# Altium schematic symbol library Brainy Modul.SCHLIB: 21 symbols
Pins are listed as number, name and electrical type; pins without a type are passive.

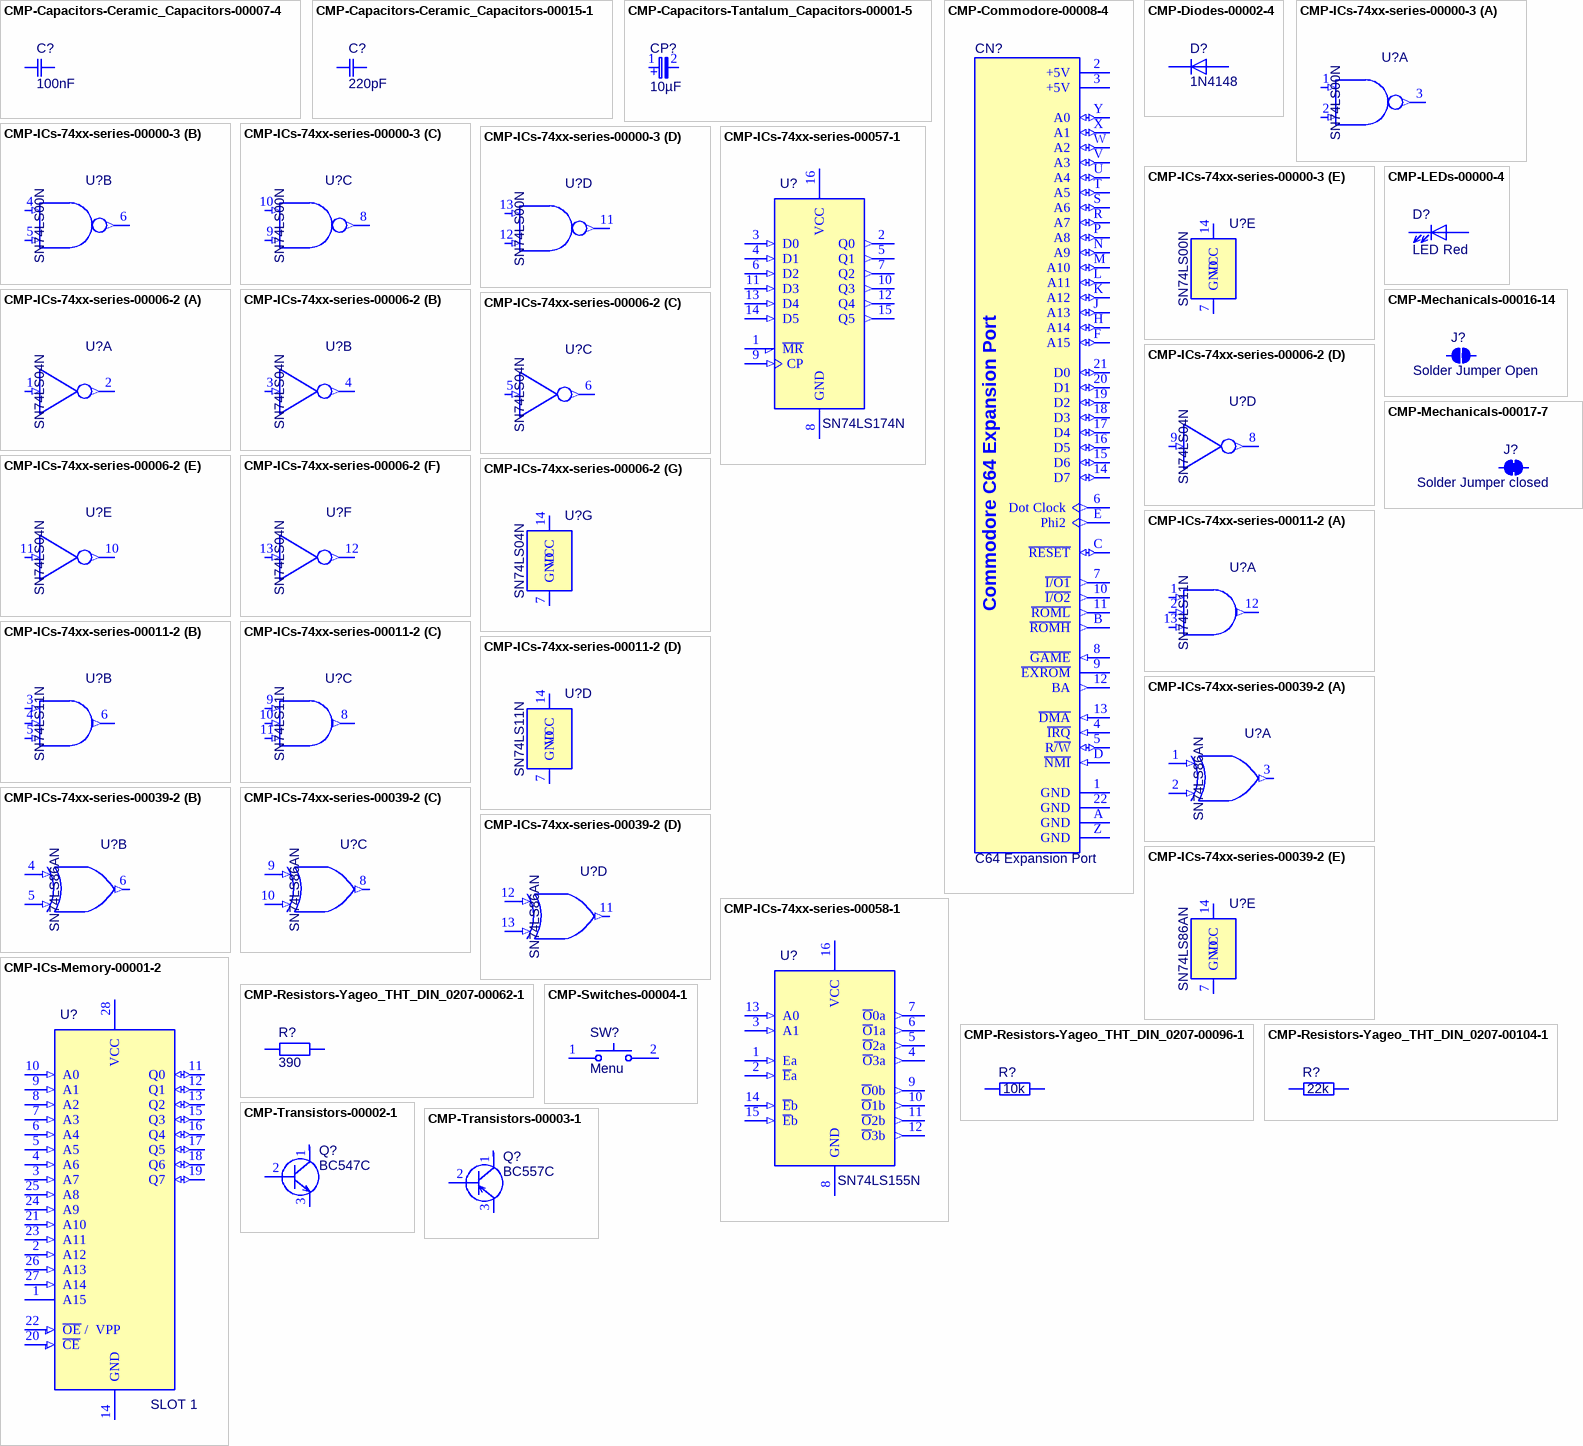
[diagram p0: symbols CMP-Capacitors-Ceramic_Capacitors-00007-4 to CMP-Transistors-00003-1]

## CMP-Capacitors-Ceramic_Capacitors-00007-4
designator C?, comment 100nF
Ceramic Disc Capacitors 100nF -20%~+80% 50V Through Hole,P=2.54mm RoHS; ComponentLink1URL: https://lcsc.com/product-detail/Others_Dersonic-CC1H104ZA1PD3F5O3000_C353909.html; Component Type: Ceramic Capacitors
footprint CAP Disc 100nF P2.54mm D5.5mm T3mm
pins: 1, 2

## CMP-Capacitors-Ceramic_Capacitors-00015-1
designator C?, comment 220pF
Keramischer Scheibenkondensator, bedrahtet. Für Printmontage, Rastermaß 2,5 mm.; Tolerance: 10%; Voltage Rating (DC): 63V; Lead/Base Style: Straight; Dielectric: C0G; Lead Diameter: 4mm; Mount: Through Hole; Height - Seated (Max): 5mm; Packaging: Tape and Reel; Width: 4mm; Number of Pins: 2; Lead Pitch: 2.5mm; Height: 5; Voltage Rating: 63V; REACH SVHC: No SVHC; Package Quantity: 3500; Capacitance: 220pF; Termination: Radial; Case/Package: Radial; Length: 0.15inch; Thickness: 2.2mm; Min Operating Temperature: -55°C; Max Operating Temperature: 125°C; Component Type: Ceramic Capacitors
footprint KERKO 220P 63V RM2.5mm
pins: 1, 2

## CMP-Capacitors-Tantalum_Capacitors-00001-5
designator CP?, comment 10µF
Tantalum Capacitors - Solid Leaded 25volts 10uF 10%; Manufacturer: KEMET; Manufacturer Part Number: T378E106K025AS; Dissipation Factor: 6%; Voltage Rating: 25V; Polarity: Polar; ESR (Equivalent Series Resistance): 2.5R; Leakage Current: 3uA; Capacitance: 10uF; Tolerance: 10%; Width: 5.84mm; Termination: Radial; Case/Package: Molded; Voltage Rating (DC): 25V; Length: 7.87mm; Max Operating Temperature: 125°C; Packaging: Bulk; Height: 3.3mm; Lead Pitch: 5.08mm; Depth: 3.3mm; Min Operating Temperature: -55°C; Component Type: Tantalum Capacitors
footprint CAP TAN 10µF T378E106K025AS P5.08mm
pins: 1, 2
text: +

## CMP-Commodore-00008-4
designator CN?, comment C64 Expansion Port  (no BOM)
Expansion Port EDGE Connector for Interface Cards; Component Type: Commodore
footprint C64 Expansion Port EDGE Connector
pins: 1 GND (power), 2 +5V (power), 3 +5V (power), 4 ~{IRQ} (in), 5 R~{/W} (io), 6 Dot Clock (out), 7 ~{I/O1} (out), 8 ~{GAME} (in), 9 ~{EXROM}, 10 ~{I/O2} (out), 11 ~{ROML} (out), 12 BA (out), 13 ~{DMA} (in), 14 D7 (io), 15 D6 (io), 16 D5 (io), 17 D4 (io), 18 D3 (io), 19 D2 (io), 20 D1 (io), 21 D0 (io), 22 GND (power), A GND (power), B ~{ROMH} (out), C ~{RESET} (io), D ~{NMI} (in), E Phi2 (out), F A15 (io), H A14 (io), J A13 (io), K A12 (io), L A11 (io), M A10 (io), N A9 (io), P A8 (io), R A7 (io), S A6 (io), T A5 (io), U A4 (io), V A3 (io), W A2 (io), X A1 (io), Y A0 (io), Z GND (power)
text: Commodore C64 Expansion Port

## CMP-Diodes-00002-4
designator D?, comment 1N4148
NEXPERIA - 1N4148 - DIODE, 1N4148 AMMO-BOX 10K; Manufacturer: NXP Semiconductors; Max Forward Surge Current (Ifsm): 4A; Capacitance: 4pF; Voltage: 100V; Forward Current: 200mA; Polarity: Standard; Forward Voltage: 1V; Element Configuration: Single; Max Power Dissipation: 500mW; Reverse Recovery Time: 4ns; Case/Package: SOD; Lead Free: Lead Free; Packaging: Ammo Pack; Termination: Axial; Max Operating Temperature: 200°C; Height: 0.25inch; Min Operating Temperature: -65°C; Weight: 0.01lb; Width: 0.25inch; Current Rating: 200mA; Radiation Hardening: No; Voltage Rating (DC): 100V; Length: 2.5inch; REACH SVHC: No SVHC; Number of Pins: 2; Output Current: 200mA; Max Repetitive Reverse Voltage (Vrrm): 100V; Current: 4A; Peak Non-Repetitive Surge Current: 4A; Manufacturer Part Number: 1N4148; Component Type: Diodes
footprint 1N4148 P=5.08mm
pins: 1, 2

## CMP-ICs-74xx-series-00000-3
designator U?, comment SN74LS00N
IC, 74LS, 74LS00, DIP14, 5.25V; Manufacturer: Texas Instruments; Number of Gates: 4; High Level Output Current: -400uA; Number of Input Lines: 2; Number of Output Lines: 1; Low Level Output Current: 8mA; Schmitt Trigger Input: No; Min Supply Voltage: 4.75V; Turn-On Delay Time: 15ns; Output Current: 16mA; Logic Function: NAND; Operating Supply Voltage: 5V; Quiescent Current: 2.4mA; Max Operating Temperature: 70°C; Number of Bits: 4; Packaging: Rail/Tube; Case/Package: PDIP; Lead Free: Lead Free; Length: 19.3mm; Radiation Hardening: No; Package Quantity: 25; Width: 6.35mm; Number of Elements: 4; Mount: Through Hole; Number of Circuits: 4; Min Operating Temperature: 0°C; Contact Plating: Gold; Number of Outputs: 1; Height: 4.57mm; Number of Inputs: 2; Number of Pins: 14; Propagation Delay: 15ns; REACH SVHC: No SVHC; Max Supply Voltage: 5.25V; Weight: 0.032734oz; Manufacturer Part Number: SN74LS00N; Component Type: 74xx-series
footprint SN74LS00N with Socket
footprint SN74LS00N
part A pins: 1 1A (in), 2 1B (in), 3 1Y (out)
part B pins: 4 2A (in), 5 2B (in), 6 2Y (out)
part C pins: 8 3Y (out), 9 3B (in), 10 3A (in)
part D pins: 11 4Y (out), 12 4B (in), 13 4A (in)
part E pins: 7 GND, 14 VCC (power)

## CMP-ICs-74xx-series-00006-2
designator U?, comment SN74LS04N
IC HEX INVERTER 14-DIP; Manufacturer: Texas Instruments; Low Level Output Current: 8mA; Number of Output Lines: 6; Propagation Delay: 15ns; High Level Output Current: -400uA; Operating Supply Voltage: 5V; Min Supply Voltage: 4.75V; Logic Function: Buffer,Inverter; Turn-On Delay Time: 22ns; Nominal Supply Current: 100uA; Number of Inputs: 1; Max Supply Voltage: 5.25V; Schmitt Trigger Input: No; Contact Plating: Gold; Packaging: Rail/Tube; Case/Package: PDIP; Lead Free: Lead Free; Weight: 0.032734oz; Width: 6.35mm; Number of Pins: 14; Output Current: 8mA; Number of Gates: 6; Length: 19.3mm; REACH SVHC: No SVHC; Max Output Current: 8mA; Number of Circuits: 6; Min Operating Temperature: 0°C; Number of Bits: 6; Mount: Through Hole; Height: 4.57mm; Package Quantity: 25; Number of Elements: 6; Max Operating Temperature: 70°C; Radiation Hardening: No; Termination: Through Hole; Manufacturer Part Number: SN74LS04N; Component Type: 74xx-series
footprint SN74LS04N with Socket
footprint SN74LS04N
part A pins: 1 1A (in), 2 1Y (out)
part B pins: 3 2A (in), 4 2Y (out)
part C pins: 5 3A (in), 6 3Y (out)
part D pins: 8 4Y (out), 9 4A (in)
part E pins: 10 5Y (out), 11 5A (in)
part F pins: 12 6Y (out), 13 6A (in)
part G pins: 7 GND, 14 VCC (power)

## CMP-ICs-74xx-series-00011-2
designator U?, comment SN74LS11N
IC GATE AND 3CH 3-INP 14DIP; Manufacturer: Texas Instruments; Quiescent Current: 3.3mA; Number of Circuits: 3; Output Current: 8mA; Schmitt Trigger Input: No; Min Supply Voltage: 4.75V; Number of Output Lines: 1; Operating Supply Voltage: 5V; High Level Output Current: -400uA; Propagation Delay: 20ns; Max Supply Voltage: 5.25V; Lead Free: Lead Free; Termination: Through Hole; Max Operating Temperature: 70°C; Number of Pins: 14; Case/Package: PDIP; Logic Function: AND; Number of Elements: 3; Low Level Output Current: 8mA; Number of Inputs: 3; Package Quantity: 25; Length: 19.3mm; Min Operating Temperature: 0°C; Width: 6.35mm; Weight: 0.032734oz; Number of Outputs: 1; Number of Gates: 3; Height: 4.57mm; Number of Bits: 3; Number of Input Lines: 3; Mount: Through Hole; Packaging: Rail/Tube; REACH SVHC: No SVHC; Max Output Current: 8mA; Turn-On Delay Time: 20ns; Radiation Hardening: No; Manufacturer Part Number: SN74LS11N; Component Type: 74xx-series
footprint SN74LS11N with Socket
footprint SN74LS11N
part A pins: 1 1A (in), 2 1B (in), 12 1Y (out), 13 1C (in)
part B pins: 3 2A (in), 4 2B (in), 5 2C (in), 6 2Y (out)
part C pins: 8 3Y (out), 9 3A (in), 10 3C (in), 11 3B (in)
part D pins: 7 GND, 14 VCC (power)

## CMP-ICs-74xx-series-00039-2
designator U?, comment SN74LS86AN
IC GATE XOR 4CH 2-INP 14-DIP; Manufacturer: Texas Instruments; Turn-On Delay Time: 30ns; Number of Input Lines: 2; Number of Elements: 4; Quiescent Current: 6.1mA; Min Supply Voltage: 4.75V; Schmitt Trigger Input: No; Logic Function: XOR,OR; Low Level Output Current: 8mA; High Level Output Current: -400uA; Operating Supply Voltage: 5V; Number of Output Lines: 1; Max Supply Voltage: 5.25V; Length: 19.3mm; REACH SVHC: No SVHC; Package Quantity: 25; Number of Gates: 4; Case/Package: PDIP; Mount: Through Hole; Height: 4.57mm; Lead Free: Lead Free; Max Operating Temperature: 70°C; Contact Plating: Gold; Radiation Hardening: No; Width: 6.35mm; Propagation Delay: 30ns; Number of Pins: 14; Number of Bits: 4; Number of Circuits: 4; Number of Inputs: 2; Output Current: 8mA; Packaging: Rail/Tube; Weight: 0.032734oz; Min Operating Temperature: 0°C; Number of Outputs: 1; Manufacturer Part Number: SN74LS86AN; Component Type: 74xx-series
footprint SN74LS86N with Socket
footprint SN74LS86N
part A pins: 1 1A (in), 2 2B (in), 3 1Y (out)
part B pins: 4 2A (in), 5 2B (in), 6 2Y (out)
part C pins: 8 3Y (out), 9 3A (in), 10 3B (in)
part D pins: 11 4Y (out), 12 4A (in), 13 4B (in)
part E pins: 7 GND, 14 VCC (power)

## CMP-ICs-74xx-series-00057-1
designator U?, comment SN74LS174N
Flip Flop D-Type Bus Interface Pos-Edge 1-Element 16-Pin PDIP Tube; Manufacturer: Texas Instruments; Number of Elements: 1; Number of Circuits: 7; Number of Output Lines: 2; Polarity: Non-Inverting; Output Current: 8mA; Operating Supply Voltage: 5V; Number of Bits per Element: 6; Output Type: TTL; Frequency: 40MHz; Turn-On Delay Time: 20ns; Clock Edge Trigger Type: Positive Edge; Logic Function: D-Type,Flip-Flop; Min Supply Voltage: 4.75V; Propagation Delay: 30ns; Max Supply Voltage: 5.25V; High Level Output Current: -400uA; Package Quantity: 25; Packaging: Rail/Tube; Length: 19.3mm; Number of Input Lines: 2; Radiation Hardening: No; Case/Package: PDIP; Mount: Through Hole; Max Operating Temperature: 70°C; Number of Bits: 6; Lead Free: Lead Free; Height: 4.57mm; Low Level Output Current: 8mA; Max Frequency: 40MHz; REACH SVHC: No SVHC; Weight: 0.03357oz; Width: 6.35mm; Number of Pins: 16; Min Operating Temperature: 0°C; Manufacturer Part Number: SN74LS174N; Component Type: 74xx-series
footprint SN74LS174N with Socket
footprint SN74LS174N
pins: 1 ~{MR}, 2 Q0 (out), 3 D0 (in), 4 D1 (in), 5 Q1 (out), 6 D2 (in), 7 Q2 (out), 8 GND (power), 9 CP (in), 10 Q3 (out), 11 D3 (in), 12 Q4 (out), 13 D4 (in), 14 D5 (in), 15 Q5 (out), 16 VCC (power)

## CMP-ICs-74xx-series-00058-1
designator U?, comment SN74LS155N
Decoder/Demultiplexer Single/Dual 3/2-to-8/4 16-Pin PDIP; Manufacturer: ON Semiconductor; Polarity: Inverting; Max Supply Voltage: 5.25V; Min Supply Voltage: 4.75V; Operating Supply Voltage: 5V; Propagation Delay: 51ns; Low Level Output Current: 8mA; High Level Output Current: -100uA; Number of Pins: 16; Case/Package: PDIP; Max Operating Temperature: 70°C; Min Operating Temperature: 0°C; Mount: Through Hole; Manufacturer Part Number: SN74LS155N; Component Type: 74xx-series
footprint SN74LS155N with Socket
footprint SN74LS155N
pins: 1 Ea (in), 2 ~{E}a (in), 3 A1 (in), 4 ~{O}3a (out), 5 ~{O}2a (out), 6 ~{O}1a (out), 7 ~{O}0a (out), 8 GND (power), 9 ~{O}0b (out), 10 ~{O}1b (out), 11 ~{O}2b (out), 12 ~{O}3b (out), 13 A0 (in), 14 ~{E}b (in), 15 ~{E}b (in), 16 VCC (power)

## CMP-ICs-Memory-00001-2
designator U?, comment SLOT 1
IC EEPROM 512KBIT 45NS 28DIP; Manufacturer: Winbond; Manufacturer Part Number: W27C512-45Z; Interface: Parallel; Density: 512Kb; Frequency: 45GHz; Operating Supply Voltage: 5V; Memory Size: 512000B; Case/Package: DIP; Memory Type: EEPROM; Number of Pins: 28; Lead Free: Lead Free; Package Quantity: 15; Packaging: Rail/Tube; Radiation Hardening: No; Access Time: 45ns; Min Operating Temperature: 0°C; Max Operating Temperature: 70°C; Component Type: Memorys
footprint Winbond W27C512-45Z DIP-28 with Socket
footprint Winbond W27C512-45Z DIP-28
pins: 1 A15, 2 A12 (in), 3 A7 (in), 4 A6 (in), 5 A5 (in), 6 A4 (in), 7 A3 (in), 8 A2 (in), 9 A1 (in), 10 A0 (in), 11 Q0 (io), 12 Q1 (io), 13 Q2 (io), 14 GND, 15 Q3 (io), 16 Q4 (io), 17 Q5 (io), 18 Q6 (io), 19 Q7 (io), 20 ~{CE} (in), 21 A10 (in), 22 ~{OE} /  VPP (in), 23 A11 (in), 24 A9 (in), 25 A8 (in), 26 A13 (in), 27 A14 (in), 28 VCC (power)

## CMP-LEDs-00000-4
designator D?, comment LED Red
WURTH ELEKTRONIK   151033RS03000   LED, 3MM,  RED, 2600MCD, 621NM; Manufacturer: Wurth Electronics; Viewing Angle: 30°; Test Current: 20mA; Forward Current: 30mA; Lens Style: Clear,Circular,Round; Forward Voltage: 2V; Packaging: Bulk; Height: 5.55mm; Color: Red; Wavelength: 621nm; Max Operating Temperature: 85°C; Luminous Intensity: 2600mcd; Dominant Wavelength: 621nm; REACH SVHC: Unknown; Mount: Through Hole; Lens Size: 3mm; Package Quantity: 1; Case/Package: Radial; Min Operating Temperature: -40°C; Manufacturer Part Number: 151033RS03000; Component Type: LEDs
footprint LED 3mm Red Straight
footprint LED 3mm Red Right Angle 2mm
footprint LED 3mm Red Right Angle 4mm
footprint LED 3mm Red Right Angle 6mm
pins: 1, 2

## CMP-Mechanicals-00016-14
designator J?, comment Solder Jumper Open  (no BOM)
Component Type: Mechanicals
footprint Solder Jumper Open Variant 2
pins: 1, 2

## CMP-Mechanicals-00017-7
designator J?, comment Solder Jumper closed  (net tie, no BOM)
Component Type: Mechanicals
footprint Solder Jumper Closed
pins: 1, 2

## CMP-Resistors-Yageo_THT_DIN_0207-00062-1
designator R?, comment 390
RES 390 OHM 1/4W 5% AXIAL; Manufacturer: Yageo; Manufacturer Part Number: CFR-25JB-52-390R; Resistance: 390R; Max Power Dissipation: 250mW; Temperature Coefficient: 500ppm/°C; Composition: Carbon Film; Max Operating Temperature: 155°C; Case/Package: Axial; Length: 0.248inch; Packaging: Bulk; Power Rating: 250mW; Tolerance: 5%; Min Operating Temperature: -55°C; Lead Free: Lead Free; Number of Terminations: 2; Package Quantity: 200; Component Type: Yageo THT DIN 0207
footprint 390 Ohm R Axial DIN0207 L6.3mm D2.5mm P7.62mm Horizontal
footprint 390 Ohm R Axial DIN0207 L6.3mm D2.5mm P10.16mm Horizontal
footprint 390 Ohm R Axial DIN0207 L6.3mm D2.5mm P15.24mm Horizontal
footprint 390 Ohm R Axial DIN0207 L6.3mm D2.5mm P2.54mm Vertical
footprint 390 Ohm R Axial DIN0207 L6.3mm D2.5mm P5.08mm Vertical
pins: 1, 2

## CMP-Resistors-Yageo_THT_DIN_0207-00096-1
designator R?, comment 10k
RES 10K OHM 1/4W 5% AXIAL; Manufacturer: Yageo; Manufacturer Part Number: CFR-25JB-52-10K; Resistance: 10kR; Temperature Coefficient: 500ppm/°C; Max Power Dissipation: 250mW; Case/Package: Axial; Number of Terminations: 2; Composition: Carbon Film; Packaging: Bulk; Min Operating Temperature: -55°C; Lead Free: Lead Free; Package Quantity: 200; Max Operating Temperature: 155°C; Length: 0.248inch; Tolerance: 5%; Component Type: Yageo THT DIN 0207
footprint 10 kOhm R Axial DIN0207 L6.3mm D2.5mm P7.62mm Horizontal
footprint 10 kOhm R Axial DIN0207 L6.3mm D2.5mm P10.16mm Horizontal
footprint 10 kOhm R Axial DIN0207 L6.3mm D2.5mm P15.24mm Horizontal
footprint 10 kOhm R Axial DIN0207 L6.3mm D2.5mm P2.54mm Vertical
footprint 10 kOhm R Axial DIN0207 L6.3mm D2.5mm P5.08mm Vertical
pins: 1, 2

## CMP-Resistors-Yageo_THT_DIN_0207-00104-1
designator R?, comment 22k
RES 22K OHM 1/4W 5% AXIAL; Manufacturer: Yageo; Manufacturer Part Number: CFR-25JB-52-22K; Max Power Dissipation: 250mW; Resistance: 22kR; Temperature Coefficient: 500ppm/°C; Composition: Carbon Film; Tolerance: 5%; Package Quantity: 200; Packaging: Bulk; Max Operating Temperature: 155°C; Min Operating Temperature: -55°C; Case/Package: Axial; Length: 0.248inch; Number of Terminations: 2; Component Type: Yageo THT DIN 0207
footprint 22 kOhm R Axial DIN0207 L6.3mm D2.5mm P7.62mm Horizontal
footprint 22 kOhm R Axial DIN0207 L6.3mm D2.5mm P10.16mm Horizontal
footprint 22 kOhm R Axial DIN0207 L6.3mm D2.5mm P15.24mm Horizontal
footprint 22 kOhm R Axial DIN0207 L6.3mm D2.5mm P2.54mm Vertical
footprint 22 kOhm R Axial DIN0207 L6.3mm D2.5mm P5.08mm Vertical
pins: 1, 2

## CMP-Switches-00004-1
designator SW?, comment Menu
SWITCH TACTILE SPST-NO 0.05A 24V; Manufacturer: TE Connectivity; Manufacturer Part Number: 1-1825027-1; Contact Current Rating: 50mA; Mechanical Life: 100000Cycles; Illumination Color: Black; Switch Function: Off-Mom; Operating Force: 160gf; Actuator Material: PBT; Actuator Type: Standard; Throw Configuration: SPST; Actuator Length: 0.226inch; Switch Travel: 0.25mm; Illumination Type: Non-Illuminated; Contact Resistance: 100mR; Min Operating Temperature: -35°C; Type: Switch; Height: 7.3mm; Orientation: Straight; Lead Free: Lead Free; Packaging: Loose Piece; Max Voltage Rating (DC): 24V; Contact Material: Copper Alloy; Contact Plating: Silver; Depth: 12.36mm; Package Quantity: 1000; Max Current Rating: 50mA; Width: 6mm; Radiation Hardening: No; Termination: PC Pins; Max Operating Temperature: 85°C; Length: 7.11mm; Electrical Life: 100000Cycles; Mount: Through Hole; ELV: Compliant; Component Type: Switches
footprint Tactile Switch Push Button Right Angle L=8.35mm (Tactile Switch SPST-NO Side Actuated Through Hole, Right Angle 1-1825027-1)
pins: 1, 2, 3 hidden, 4 hidden

## CMP-Transistors-00002-1
designator Q?, comment BC547C
BC547C Diotec Bipolar NPN Transistor 45V; Collector Base Voltage (VCBO): 50V; Frequency: 300MHz; Power Dissipation: 500mW; Number of Elements: 1; Emitter Base Voltage (VEBO): 5V; Collector Emitter Saturation Voltage: 600mV; Max Operating Temperature: 150°C; Number of Channels: 1; Number of Pins: 3; Polarity: NPN; Collector Emitter Voltage (VCEO): 45V; Mount: Through Hole; Packaging: Tape and Reel; Min Operating Temperature: -55°C; Case/Package: TO-92; Manufacturer: Diotec; Manufacturer Part Number: BC547C; Component Type: Transistors
footprint BC547C
pins: 1, 2, 3

## CMP-Transistors-00003-1
designator Q?, comment BC557C
Trans GP BJT PNP 45V 0.1A Automotive 3-Pin TO-92 T/R; Manufacturer: Diotec; Number of Elements: 1; Frequency: 150MHz; Emitter Base Voltage (VEBO): 5V; Power Dissipation: 500mW; Collector Base Voltage (VCBO): 50V; Max Operating Temperature: 150°C; Case/Package: TO-92; Collector Emitter Voltage (VCEO): 45V; Packaging: Tape and Reel; Min Operating Temperature: -55°C; Polarity: PNP; Mount: Through Hole; Number of Pins: 3; Manufacturer Part Number: BC557C; Component Type: Transistors
footprint BC557C
pins: 1, 2, 3